# EAGLE library part DM1B-DSF-PEJ (library sd-card)
SDcard connector reverse type HIROSE
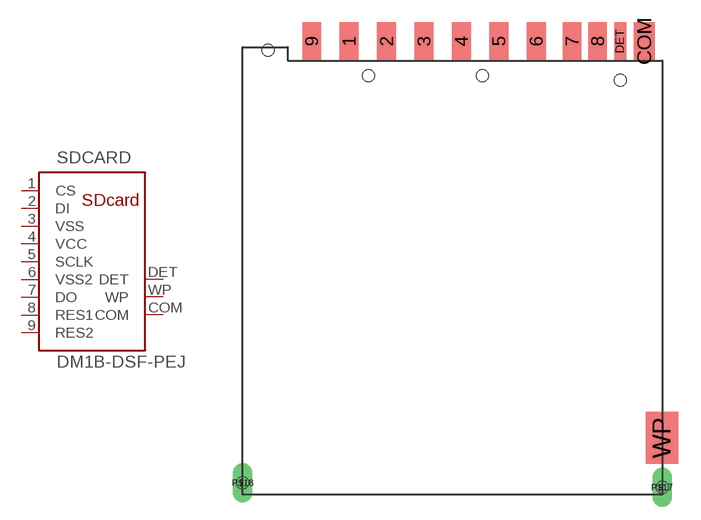
[diagram p2: symbol with the pads of DM1B-DSF-PEJ; footprint DM1B-DSF-PEJ]

Designator prefix SDCARD

## DM1B-DSF-PEJ  [DM1B-DSF-PEJ]
1  CS
2  DI
3  VSS
4  VCC
5  SCLK
6  VSS2
7  DO
8  RES1
9  RES2
COM  COM
DET  DET
WP  WP

## Footprint DM1B-DSF-PEJ (pad centres in mm)
smd 1.25 x 2.5: 1 -6.9,15.3; 2 -4.4,15.3; 3 -1.9,15.3; 4 0.6,15.3; 5 3.1,15.3; 6 5.6,15.3; 7 8,15.3; 8 9.7,15.3; 9 -9.4,15.3
smd 1.4 x 2.5: COM 12.8,15.3
smd 0.8 x 2.5: DET 11.2,15.3
drill 0.8 pad 1.2 long: P$17 14,-14.5
drill 0.8 pad 1.27 long: P$18 -14,-14.2
smd 2.2 x 3.5: WP 14,-11.2
hole 0.8 at -12.3,14.7
hole 0.8 at -5.6,13
hole 0.8 at 2,13
hole 0.8 at 11.2,12.7
hole 0.8 at -14,-14.2
hole 0.8 at 14,-14.5